# Altium footprint library sod.PcbLib: 4 footprints
Each footprint in its own frame and in the unit in brackets; x right, y up, seen from the top. Pads: shape width x height; smd on the part's side, far side on the other; paste and mask are expansions set on the pad; w line width, h text height; cw(c..) or ccw(c..) is an arc to the next point about the centre after c.
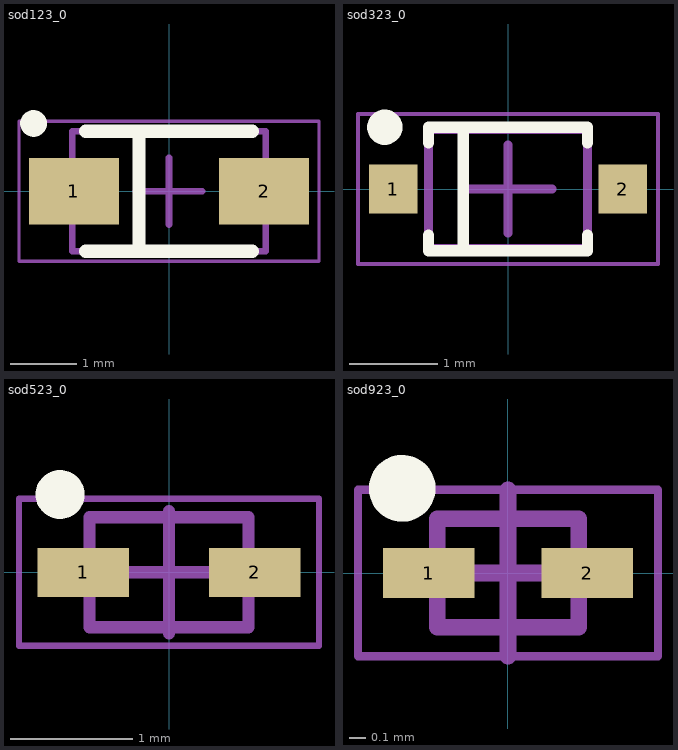
[diagram p0: the footprints below, top view; thin cyan lines are the x and y axes]

## sod123_0 [mm] "SOD123, 1.65mm x 2.70mm"
height 98
pads (2):
  rect 1.35x1 smd: 1(-1.425,0) 2(1.425,0)
Top Overlay:
  circle w0.2: c-2.032,1.016 r0.1
  lines w0.2: -1.25,-0.9 1.25,-0.9 ; -1.25,0.9 1.25,0.9 ; -0.45,-0.9 -0.45,0.9
Mechanical 13:
  lines w0.1: -1.45,-0.9 1.45,-0.9 1.45,0.9 -1.45,0.9 -1.45,-0.9
Mechanical 15:
  lines w0.05: -2.25,-1.05 2.25,-1.05 2.25,1.05 -2.25,1.05 -2.25,-1.05
  lines w0.1: -0.5,0 0.5,0 ; 0,-0.5 0,0.5
3D body: height 1, standoff 0, extent -1.45,-0.9 1.45,0.9

## sod323_0 [mm] "SOD-323, 1.25mm x 1.7mm"
height 1
pads (2):
  rect 0.55x0.55 smd: 1(-1.3,0) 2(1.3,0)
Top Overlay:
  circle w0.2: c-1.397,0.7 r0.1
  lines w0.127: -0.9,-0.525 -0.9,-0.7 0.9,-0.7 0.9,-0.525 ; -0.9,0.525 -0.9,0.7 0.9,0.7 0.9,0.525 ; -0.508,-0.7 -0.508,0.7
Mechanical 13:
  lines w0.1: -0.9,-0.675 -0.9,0.675 0.9,0.675 0.9,-0.675 -0.9,-0.675
Mechanical 15:
  lines w0.05: -1.7,-0.85 -1.7,0.85 1.7,0.85 1.7,-0.85 -1.7,-0.85
  lines w0.1: -0.5,0 0.5,0 ; 0,-0.5 0,0.5
3D body: height 1, standoff 0, extent -0.9,-0.675 0.9,0.675

## sod523_0 [mm] "SOD523, 0.80mm x 1.20mm"
height 0.7
pads (2):
  rect 0.75x0.4 smd: 1(-0.7,0) 2(0.7,0)
Top Overlay:
  circle w0.2: c-0.889,0.635 r0.1
Mechanical 13:
  lines w0.1: -0.65,-0.45 0.65,-0.45 0.65,0.45 -0.65,0.45 -0.65,-0.45
Mechanical 15:
  lines w0.05: -1.225,-0.6 1.225,-0.6 1.225,0.6 -1.225,0.6 -1.225,-0.6
  lines w0.1: -0.5,0 0.5,0 ; 0,-0.5 0,0.5
3D body: height 0.7, standoff 0, extent -0.65,-0.45 0.65,0.45

## sod923_0 [mm] "SOD923, 0.60mm x 0.80mm"
height 0.4
pads (2):
  rect 0.55x0.3 smd: 1(-0.475,0) 2(0.475,0)
Top Overlay:
  circle w0.2: c-0.635,0.508 r0.1
Mechanical 13:
  lines w0.1: -0.425,-0.325 -0.425,0.325 0.425,0.325 0.425,-0.325 -0.425,-0.325
Mechanical 15:
  lines w0.05: -0.9,-0.5 -0.9,0.5 0.9,0.5 0.9,-0.5 -0.9,-0.5
  lines w0.1: -0.5,0 0.5,0 ; 0,-0.5 0,0.5
3D body: height 0.4, standoff 0, extent -0.425,-0.325 0.425,0.325